# Altium footprint library Connector_Phoenix_MC.PcbLib: 180 footprints (part 10 of 12)
Each footprint in its own frame and in the unit in brackets; x right, y up, seen from the top. Pads: shape width x height; smd on the part's side, far side on the other; paste and mask are expansions set on the pad; w line width, h text height; cw(c..) or ccw(c..) is an arc to the next point about the centre after c.
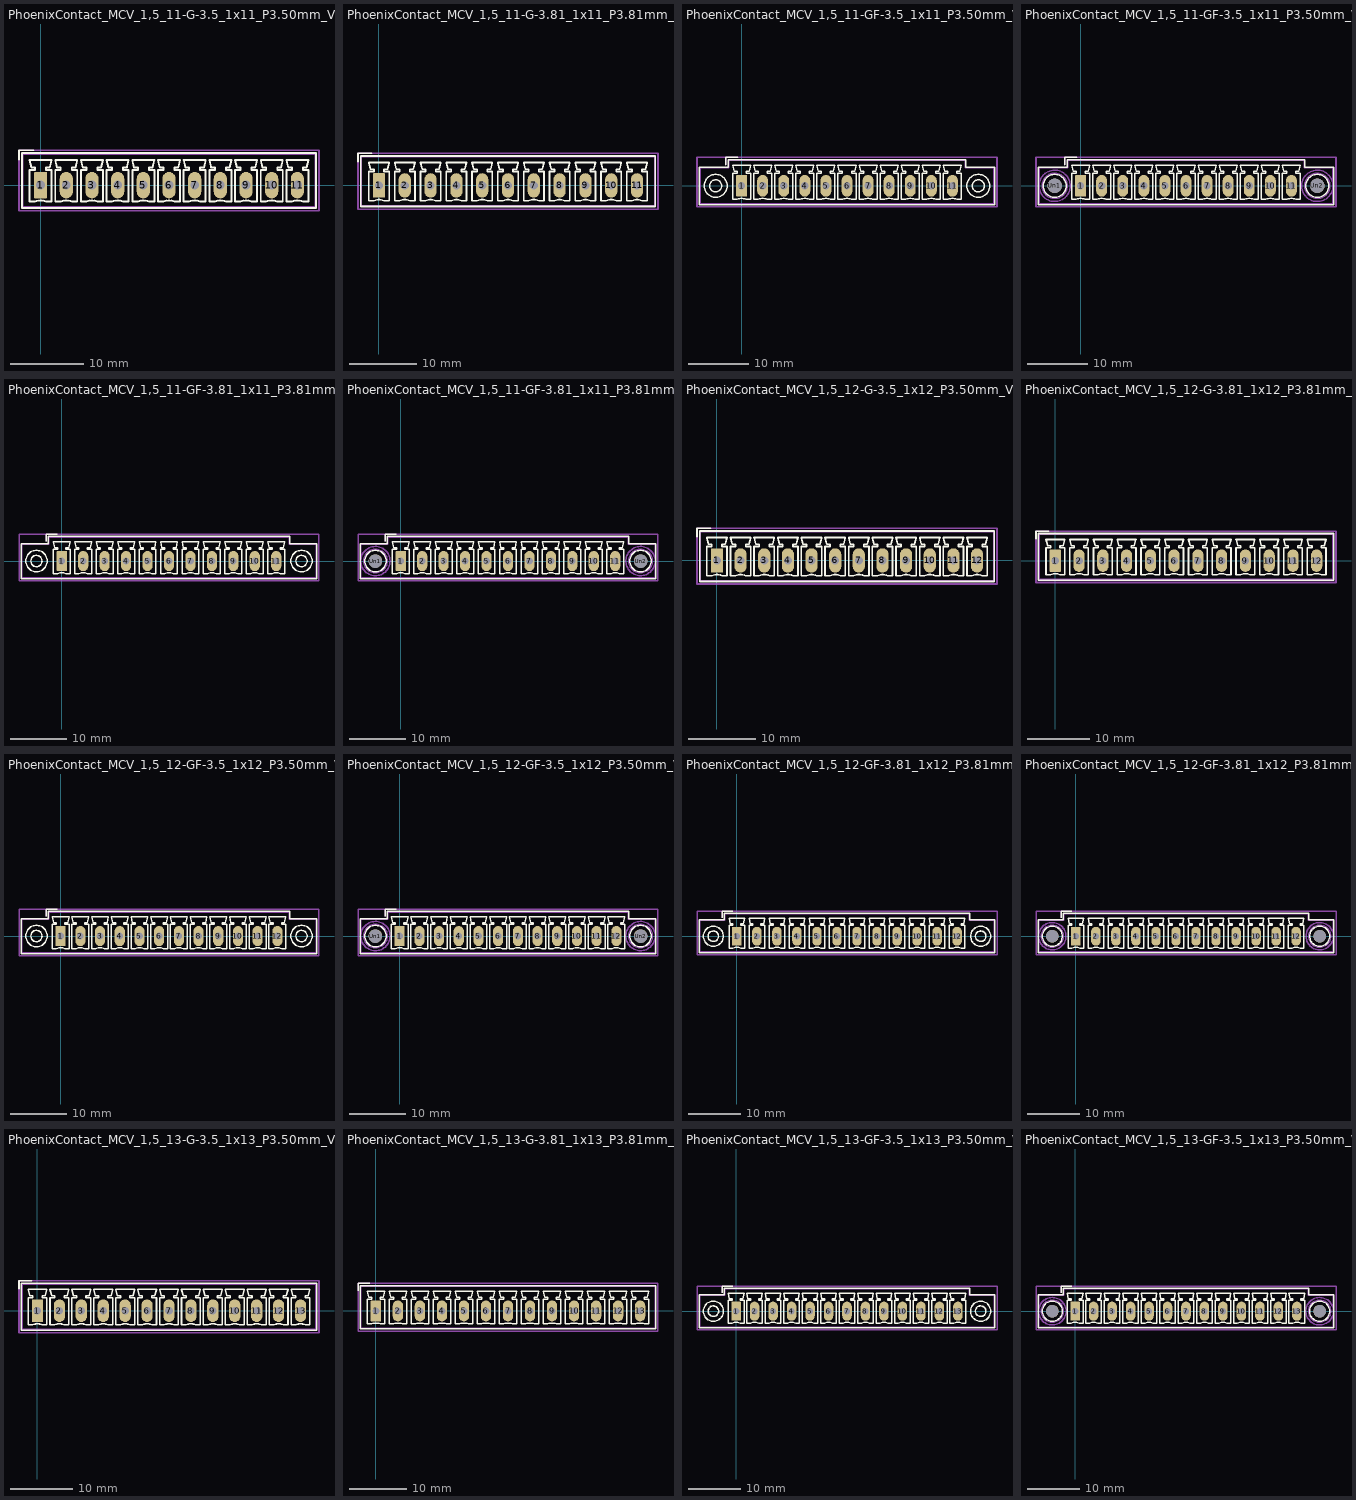
[diagram p9: the footprints below, top view; thin cyan lines are the x and y axes]

## PhoenixContact_MCV_1,5_11-G-3.5_1x11_P3.50mm_Vertical [mm]
pads (11):
  rrect14% 1.8x3.6 hole 1.2: 1(0,0)
  rrect100% 1.8x3.6 hole 1.2: 2(3.5,0) 3(7,0) 4(10.5,0) 5(14,0) 6(17.5,0) 7(21,0) 8(24.5,0) 9(28,0) 10(31.5,0) 11(35,0)
F.SilkS:
  drawing of 160 lines, arcs and shapes, not listed
Top Assembly:
  lines w0.254: -2.95,3.5 -2.95,4.75 -0.95,4.75 ; -2.45,-3 37.45,-3 37.45,4.25 -2.45,4.25 -2.45,-3
  text "'.Designator'" at 13.453,2.71 h1
Top Courtyard:
  lines w0.254: -2.95,-3.5 37.95,-3.5 37.95,4.75 -2.95,4.75 -2.95,-3.5
Top Designator:
  text ".Designator" at 9.882,0.117 h1.52

## PhoenixContact_MCV_1,5_11-G-3.81_1x11_P3.81mm_Vertical [mm]
pads (11):
  rrect14% 1.8x3.6 hole 1.2: 1(0,0)
  rrect100% 1.8x3.6 hole 1.2: 2(3.81,0) 3(7.62,0) 4(11.43,0) 5(15.24,0) 6(19.05,0) 7(22.86,0) 8(26.67,0) 9(30.48,0) 10(34.29,0) 11(38.1,0)
F.SilkS:
  drawing of 160 lines, arcs and shapes, not listed
Top Assembly:
  lines w0.254: -3.1,3.5 -3.1,4.75 -1.1,4.75 ; -2.6,-3 40.7,-3 40.7,4.25 -2.6,4.25 -2.6,-3
  text "'.Designator'" at 15.003,2.71 h1
Top Courtyard:
  lines w0.254: -3.1,-3.5 41.2,-3.5 41.2,4.75 -3.1,4.75 -3.1,-3.5
Top Designator:
  text ".Designator" at 11.432,0.117 h1.52

## PhoenixContact_MCV_1,5_11-GF-3.5_1x11_P3.50mm_Vertical_ThreadedFlange [mm]
pads (11):
  rrect14% 1.8x3.6 hole 1.2: 1(0,0)
  rrect100% 1.8x3.6 hole 1.2: 2(3.5,0) 3(7,0) 4(10.5,0) 5(14,0) 6(17.5,0) 7(21,0) 8(24.5,0) 9(28,0) 10(31.5,0) 11(35,0)
F.SilkS:
  drawing of 168 lines, arcs and shapes, not listed
Top Assembly:
  lines w0.254: -2.6,3.5 -2.6,4.75 -0.6,4.75 ; -6.9,-3 41.9,-3 41.9,3 37.1,3 37.1,4.25 -2.1,4.25 -2.1,3 -6.9,3 -6.9,-3
  text "'.Designator'" at 13.453,2.71 h1
Top Courtyard:
  lines w0.254: -7.4,-3.5 42.4,-3.5 42.4,4.75 -7.4,4.75 -7.4,-3.5
Top Designator:
  text ".Designator" at 9.882,0.117 h1.52

## PhoenixContact_MCV_1,5_11-GF-3.5_1x11_P3.50mm_Vertical_ThreadedFlange_MountHole [mm]
pads (13):
  rrect14% 1.8x3.6 hole 1.2: 1(0,0)
  rrect100% 1.8x3.6 hole 1.2: 2(3.5,0) 3(7,0) 4(10.5,0) 5(14,0) 6(17.5,0) 7(21,0) 8(24.5,0) 9(28,0) 10(31.5,0) 11(35,0)
  round 2.4 hole 2.4: Un1(-4.3,0) Un2(39.3,0)
F.SilkS:
  drawing of 166 lines, arcs and shapes, not listed
B.SilkS:
  circle w0.254: c39.3,0 r2.21
  circle w0.254: c-4.3,0 r2.21
Top Assembly:
  lines w0.254: -2.6,3.5 -2.6,4.75 -0.6,4.75 ; -6.9,-3 41.9,-3 41.9,3 37.1,3 37.1,4.25 -2.1,4.25 -2.1,3 -6.9,3 -6.9,-3
  text "'.Designator'" at 13.453,2.71 h1
Bottom Assembly:
  circle w0.254: c39.3,0 r2.1
  circle w0.254: c-4.3,0 r2.1
Top Courtyard:
  lines w0.254: -7.4,-3.5 42.4,-3.5 42.4,4.75 -7.4,4.75 -7.4,-3.5
Bottom Courtyard:
  circle w0.254: c39.3,0 r2.6
  circle w0.254: c-4.3,0 r2.6
Top Designator:
  text ".Designator" at 9.882,0.117 h1.52

## PhoenixContact_MCV_1,5_11-GF-3.81_1x11_P3.81mm_Vertical_ThreadedFlange [mm]
pads (11):
  rrect14% 1.8x3.6 hole 1.2: 1(0,0)
  rrect100% 1.8x3.6 hole 1.2: 2(3.81,0) 3(7.62,0) 4(11.43,0) 5(15.24,0) 6(19.05,0) 7(22.86,0) 8(26.67,0) 9(30.48,0) 10(34.29,0) 11(38.1,0)
F.SilkS:
  drawing of 168 lines, arcs and shapes, not listed
Top Assembly:
  lines w0.254: -2.8,3.5 -2.8,4.75 -0.8,4.75 ; -7.1,-3 45.2,-3 45.2,3 40.4,3 40.4,4.25 -2.3,4.25 -2.3,3 -7.1,3 -7.1,-3
  text "'.Designator'" at 15.003,2.71 h1
Top Courtyard:
  lines w0.254: -7.6,-3.5 45.7,-3.5 45.7,4.75 -7.6,4.75 -7.6,-3.5
Top Designator:
  text ".Designator" at 11.432,0.117 h1.52

## PhoenixContact_MCV_1,5_11-GF-3.81_1x11_P3.81mm_Vertical_ThreadedFlange_MountHole [mm]
pads (13):
  rrect14% 1.8x3.6 hole 1.2: 1(0,0)
  rrect100% 1.8x3.6 hole 1.2: 2(3.81,0) 3(7.62,0) 4(11.43,0) 5(15.24,0) 6(19.05,0) 7(22.86,0) 8(26.67,0) 9(30.48,0) 10(34.29,0) 11(38.1,0)
  round 2.4 hole 2.4: Un1(-4.5,0) Un2(42.6,0)
F.SilkS:
  drawing of 166 lines, arcs and shapes, not listed
B.SilkS:
  circle w0.254: c42.6,0 r2.21
  circle w0.254: c-4.5,0 r2.21
Top Assembly:
  lines w0.254: -2.8,3.5 -2.8,4.75 -0.8,4.75 ; -7.1,-3 45.2,-3 45.2,3 40.4,3 40.4,4.25 -2.3,4.25 -2.3,3 -7.1,3 -7.1,-3
  text "'.Designator'" at 15.003,2.71 h1
Bottom Assembly:
  circle w0.254: c42.6,0 r2.1
  circle w0.254: c-4.5,0 r2.1
Top Courtyard:
  lines w0.254: -7.6,-3.5 45.7,-3.5 45.7,4.75 -7.6,4.75 -7.6,-3.5
Bottom Courtyard:
  circle w0.254: c42.6,0 r2.6
  circle w0.254: c-4.5,0 r2.6
Top Designator:
  text ".Designator" at 11.432,0.117 h1.52

## PhoenixContact_MCV_1,5_12-G-3.5_1x12_P3.50mm_Vertical [mm]
pads (12):
  rrect14% 1.8x3.6 hole 1.2: 1(0,0)
  rrect100% 1.8x3.6 hole 1.2: 2(3.5,0) 3(7,0) 4(10.5,0) 5(14,0) 6(17.5,0) 7(21,0) 8(24.5,0) 9(28,0) 10(31.5,0) 11(35,0) 12(38.5,0)
F.SilkS:
  drawing of 174 lines, arcs and shapes, not listed
Top Assembly:
  lines w0.254: -2.95,3.5 -2.95,4.75 -0.95,4.75 ; -2.45,-3 40.95,-3 40.95,4.25 -2.45,4.25 -2.45,-3
  text "'.Designator'" at 15.203,2.71 h1
Top Courtyard:
  lines w0.254: -2.95,-3.5 41.45,-3.5 41.45,4.75 -2.95,4.75 -2.95,-3.5
Top Designator:
  text ".Designator" at 11.632,0.117 h1.52

## PhoenixContact_MCV_1,5_12-G-3.81_1x12_P3.81mm_Vertical [mm]
pads (12):
  rrect14% 1.8x3.6 hole 1.2: 1(0,0)
  rrect100% 1.8x3.6 hole 1.2: 2(3.81,0) 3(7.62,0) 4(11.43,0) 5(15.24,0) 6(19.05,0) 7(22.86,0) 8(26.67,0) 9(30.48,0) 10(34.29,0) 11(38.1,0) 12(41.91,0)
F.SilkS:
  drawing of 174 lines, arcs and shapes, not listed
Top Assembly:
  lines w0.254: -3.1,3.5 -3.1,4.75 -1.1,4.75 ; -2.6,-3 44.51,-3 44.51,4.25 -2.6,4.25 -2.6,-3
  text "'.Designator'" at 16.913,2.71 h1
Top Courtyard:
  lines w0.254: -3.1,-3.5 45.01,-3.5 45.01,4.75 -3.1,4.75 -3.1,-3.5
Top Designator:
  text ".Designator" at 13.337,0.117 h1.52

## PhoenixContact_MCV_1,5_12-GF-3.5_1x12_P3.50mm_Vertical_ThreadedFlange [mm]
pads (12):
  rrect14% 1.8x3.6 hole 1.2: 1(0,0)
  rrect100% 1.8x3.6 hole 1.2: 2(3.5,0) 3(7,0) 4(10.5,0) 5(14,0) 6(17.5,0) 7(21,0) 8(24.5,0) 9(28,0) 10(31.5,0) 11(35,0) 12(38.5,0)
F.SilkS:
  drawing of 182 lines, arcs and shapes, not listed
Top Assembly:
  lines w0.254: -2.6,3.5 -2.6,4.75 -0.6,4.75 ; -6.9,-3 45.4,-3 45.4,3 40.6,3 40.6,4.25 -2.1,4.25 -2.1,3 -6.9,3 -6.9,-3
  text "'.Designator'" at 15.203,2.71 h1
Top Courtyard:
  lines w0.254: -7.4,-3.5 45.9,-3.5 45.9,4.75 -7.4,4.75 -7.4,-3.5
Top Designator:
  text ".Designator" at 11.632,0.117 h1.52

## PhoenixContact_MCV_1,5_12-GF-3.5_1x12_P3.50mm_Vertical_ThreadedFlange_MountHole [mm]
pads (14):
  rrect14% 1.8x3.6 hole 1.2: 1(0,0)
  rrect100% 1.8x3.6 hole 1.2: 2(3.5,0) 3(7,0) 4(10.5,0) 5(14,0) 6(17.5,0) 7(21,0) 8(24.5,0) 9(28,0) 10(31.5,0) 11(35,0) 12(38.5,0)
  round 2.4 hole 2.4: Un1(-4.3,0) Un2(42.8,0)
F.SilkS:
  drawing of 180 lines, arcs and shapes, not listed
B.SilkS:
  circle w0.254: c42.8,0 r2.21
  circle w0.254: c-4.3,0 r2.21
Top Assembly:
  lines w0.254: -2.6,3.5 -2.6,4.75 -0.6,4.75 ; -6.9,-3 45.4,-3 45.4,3 40.6,3 40.6,4.25 -2.1,4.25 -2.1,3 -6.9,3 -6.9,-3
  text "'.Designator'" at 15.203,2.71 h1
Bottom Assembly:
  circle w0.254: c42.8,0 r2.1
  circle w0.254: c-4.3,0 r2.1
Top Courtyard:
  lines w0.254: -7.4,-3.5 45.9,-3.5 45.9,4.75 -7.4,4.75 -7.4,-3.5
Bottom Courtyard:
  circle w0.254: c42.8,0 r2.6
  circle w0.254: c-4.3,0 r2.6
Top Designator:
  text ".Designator" at 11.632,0.117 h1.52

## PhoenixContact_MCV_1,5_12-GF-3.81_1x12_P3.81mm_Vertical_ThreadedFlange [mm]
pads (12):
  rrect14% 1.8x3.6 hole 1.2: 1(0,0)
  rrect100% 1.8x3.6 hole 1.2: 2(3.81,0) 3(7.62,0) 4(11.43,0) 5(15.24,0) 6(19.05,0) 7(22.86,0) 8(26.67,0) 9(30.48,0) 10(34.29,0) 11(38.1,0) 12(41.91,0)
F.SilkS:
  drawing of 182 lines, arcs and shapes, not listed
Top Assembly:
  lines w0.254: -2.8,3.5 -2.8,4.75 -0.8,4.75 ; -7.1,-3 49.01,-3 49.01,3 44.21,3 44.21,4.25 -2.3,4.25 -2.3,3 -7.1,3 -7.1,-3
  text "'.Designator'" at 16.913,2.71 h1
Top Courtyard:
  lines w0.254: -7.6,-3.5 49.51,-3.5 49.51,4.75 -7.6,4.75 -7.6,-3.5
Top Designator:
  text ".Designator" at 13.337,0.117 h1.52

## PhoenixContact_MCV_1,5_12-GF-3.81_1x12_P3.81mm_Vertical_ThreadedFlange_MountHole [mm]
pads (14):
  rrect14% 1.8x3.6 hole 1.2: 1(0,0)
  rrect100% 1.8x3.6 hole 1.2: 2(3.81,0) 3(7.62,0) 4(11.43,0) 5(15.24,0) 6(19.05,0) 7(22.86,0) 8(26.67,0) 9(30.48,0) 10(34.29,0) 11(38.1,0) 12(41.91,0)
  round 2.4 hole 2.4: Un1(-4.5,0) Un2(46.41,0)
F.SilkS:
  drawing of 180 lines, arcs and shapes, not listed
B.SilkS:
  circle w0.254: c46.41,0 r2.21
  circle w0.254: c-4.5,0 r2.21
Top Assembly:
  lines w0.254: -2.8,3.5 -2.8,4.75 -0.8,4.75 ; -7.1,-3 49.01,-3 49.01,3 44.21,3 44.21,4.25 -2.3,4.25 -2.3,3 -7.1,3 -7.1,-3
  text "'.Designator'" at 16.913,2.71 h1
Bottom Assembly:
  circle w0.254: c46.41,0 r2.1
  circle w0.254: c-4.5,0 r2.1
Top Courtyard:
  lines w0.254: -7.6,-3.5 49.51,-3.5 49.51,4.75 -7.6,4.75 -7.6,-3.5
Bottom Courtyard:
  circle w0.254: c46.41,0 r2.6
  circle w0.254: c-4.5,0 r2.6
Top Designator:
  text ".Designator" at 13.337,0.117 h1.52

## PhoenixContact_MCV_1,5_13-G-3.5_1x13_P3.50mm_Vertical [mm]
pads (13):
  rrect14% 1.8x3.6 hole 1.2: 1(0,0)
  rrect100% 1.8x3.6 hole 1.2: 2(3.5,0) 3(7,0) 4(10.5,0) 5(14,0) 6(17.5,0) 7(21,0) 8(24.5,0) 9(28,0) 10(31.5,0) 11(35,0) 12(38.5,0) 13(42,0)
F.SilkS:
  drawing of 188 lines, arcs and shapes, not listed
Top Assembly:
  lines w0.254: -2.95,3.5 -2.95,4.75 -0.95,4.75 ; -2.45,-3 44.45,-3 44.45,4.25 -2.45,4.25 -2.45,-3
  text "'.Designator'" at 16.953,2.71 h1
Top Courtyard:
  lines w0.254: -2.95,-3.5 44.95,-3.5 44.95,4.75 -2.95,4.75 -2.95,-3.5
Top Designator:
  text ".Designator" at 13.382,0.117 h1.52

## PhoenixContact_MCV_1,5_13-G-3.81_1x13_P3.81mm_Vertical [mm]
pads (13):
  rrect14% 1.8x3.6 hole 1.2: 1(0,0)
  rrect100% 1.8x3.6 hole 1.2: 2(3.81,0) 3(7.62,0) 4(11.43,0) 5(15.24,0) 6(19.05,0) 7(22.86,0) 8(26.67,0) 9(30.48,0) 10(34.29,0) 11(38.1,0) 12(41.91,0) 13(45.72,0)
F.SilkS:
  drawing of 188 lines, arcs and shapes, not listed
Top Assembly:
  lines w0.254: -3.1,3.5 -3.1,4.75 -1.1,4.75 ; -2.6,-3 48.32,-3 48.32,4.25 -2.6,4.25 -2.6,-3
  text "'.Designator'" at 18.813,2.71 h1
Top Courtyard:
  lines w0.254: -3.1,-3.5 48.82,-3.5 48.82,4.75 -3.1,4.75 -3.1,-3.5
Top Designator:
  text ".Designator" at 15.242,0.117 h1.52

## PhoenixContact_MCV_1,5_13-GF-3.5_1x13_P3.50mm_Vertical_ThreadedFlange [mm]
pads (13):
  rrect14% 1.8x3.6 hole 1.2: 1(0,0)
  rrect100% 1.8x3.6 hole 1.2: 2(3.5,0) 3(7,0) 4(10.5,0) 5(14,0) 6(17.5,0) 7(21,0) 8(24.5,0) 9(28,0) 10(31.5,0) 11(35,0) 12(38.5,0) 13(42,0)
F.SilkS:
  drawing of 196 lines, arcs and shapes, not listed
Top Assembly:
  lines w0.254: -2.6,3.5 -2.6,4.75 -0.6,4.75 ; -6.9,-3 48.9,-3 48.9,3 44.1,3 44.1,4.25 -2.1,4.25 -2.1,3 -6.9,3 -6.9,-3
  text "'.Designator'" at 16.953,2.71 h1
Top Courtyard:
  lines w0.254: -7.4,-3.5 49.4,-3.5 49.4,4.75 -7.4,4.75 -7.4,-3.5
Top Designator:
  text ".Designator" at 13.382,0.117 h1.52

## PhoenixContact_MCV_1,5_13-GF-3.5_1x13_P3.50mm_Vertical_ThreadedFlange_MountHole [mm]
pads (15):
  rrect14% 1.8x3.6 hole 1.2: 1(0,0)
  rrect100% 1.8x3.6 hole 1.2: 2(3.5,0) 3(7,0) 4(10.5,0) 5(14,0) 6(17.5,0) 7(21,0) 8(24.5,0) 9(28,0) 10(31.5,0) 11(35,0) 12(38.5,0) 13(42,0)
  round 2.4 hole 2.4: Un1(-4.3,0) Un2(46.3,0)
F.SilkS:
  drawing of 194 lines, arcs and shapes, not listed
B.SilkS:
  circle w0.254: c46.3,0 r2.21
  circle w0.254: c-4.3,0 r2.21
Top Assembly:
  lines w0.254: -2.6,3.5 -2.6,4.75 -0.6,4.75 ; -6.9,-3 48.9,-3 48.9,3 44.1,3 44.1,4.25 -2.1,4.25 -2.1,3 -6.9,3 -6.9,-3
  text "'.Designator'" at 16.953,2.71 h1
Bottom Assembly:
  circle w0.254: c46.3,0 r2.1
  circle w0.254: c-4.3,0 r2.1
Top Courtyard:
  lines w0.254: -7.4,-3.5 49.4,-3.5 49.4,4.75 -7.4,4.75 -7.4,-3.5
Bottom Courtyard:
  circle w0.254: c46.3,0 r2.6
  circle w0.254: c-4.3,0 r2.6
Top Designator:
  text ".Designator" at 13.382,0.117 h1.52